# Altium footprint library Oscillators.PcbLib: 2 footprints
Each footprint in its own frame and in the unit in brackets; x right, y up, seen from the top. Pads: shape width x height; smd on the part's side, far side on the other; paste and mask are expansions set on the pad; w line width, h text height; cw(c..) or ccw(c..) is an arc to the next point about the centre after c.
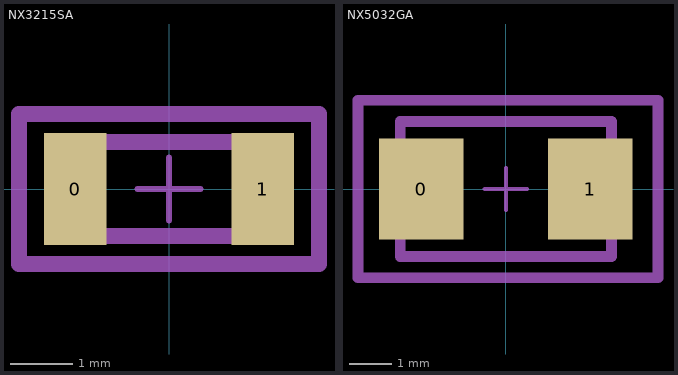
[diagram p0: the footprints below, top view; thin cyan lines are the x and y axes]

## NX3215SA [mm]
height 0.5
pads (2):
  rect 1x1.8 smd: 0(-1.5,0) 1(1.5,0)
Mechanical 13:
  lines w0.254: -1.6,-0.75 1.6,-0.75 1.6,0.75 -1.6,0.75 -1.6,-0.75
Mechanical 15:
  lines w0.1: -0.5,0 0.5,0 ; 0,-0.5 0,0.5
  lines w0.254: -2.4,-1.2 2.4,-1.2 2.4,1.2 -2.4,1.2 -2.4,-1.2
3D body "User Library-NDK_NX3215SA.step": height 0.8, standoff 0, extent -1.6,-0.75 1.6,0.75

## NX5032GA [mm]
height 0.5
pads (2):
  rect 2x2.4 smd: 0(-2,0) 1(2,0)
Mechanical 13:
  lines w0.254: -2.5,-1.6 2.5,-1.6 2.5,1.6 -2.5,1.6 -2.5,-1.6
Mechanical 15:
  lines w0.1: -0.5,0 0.5,0 ; 0,-0.5 0,0.5
  lines w0.254: -3.5,-2.1 3.6,-2.1 3.6,2.1 -3.5,2.1 -3.5,-2.1
3D body "User Library-050004956.step": height 1, standoff -0.01, extent -2.5,-1.6 2.5,1.6